# Altium schematic symbol library 30A Fuse Holder.SchLib: 1 symbol
Pins are listed as number, name and electrical type; pins without a type are passive.

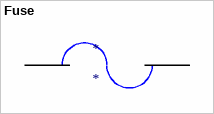
[diagram p0: symbol Fuse]

## Fuse
designator *
footprint Fuse Holder (30Amp)
pins: 1, 2